# EAGLE library part MMA8452Q (library hackerscouts)
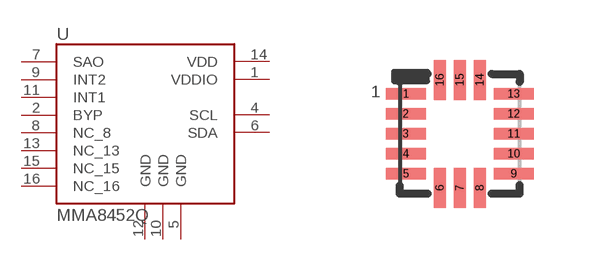
[diagram p0: symbol with the pads of QFN-16(5X3); footprint QFN-16(5X3)]

Designator prefix -

## MMA8452Q  [QFN-16(5X3)]
1  VDDIO
2  BYP
4  SCL
5  GND
6  SDA
7  SAO
8  NC_8
9  INT2
10  GND
11  INT1
12  GND
13  NC_13
14  VDD
15  NC_15
16  NC_16

## Footprint QFN-16(5X3) (pad centres in mm)
smd 1 x 0.295: 1 -1.35,1; 2 -1.35,0.5; 3 -1.35,0; 4 -1.35,-0.5; 5 -1.35,-1; 9 1.35,-1; 10 1.35,-0.5; 11 1.35,0; 12 1.35,0.5; 13 1.35,1
smd 0.295 x 1: 6 -0.5,-1.35; 7 0,-1.35; 8 0.5,-1.35; 14 0.5,1.35; 15 0,1.35; 16 -0.5,1.35